# Altium footprint library FETs - MOSFETs.PcbLib: 1 footprints
Each footprint in its own frame and in the unit in brackets; x right, y up, seen from the top. Pads: shape width x height; smd on the part's side, far side on the other; paste and mask are expansions set on the pad; w line width, h text height; cw(c..) or ccw(c..) is an arc to the next point about the centre after c.
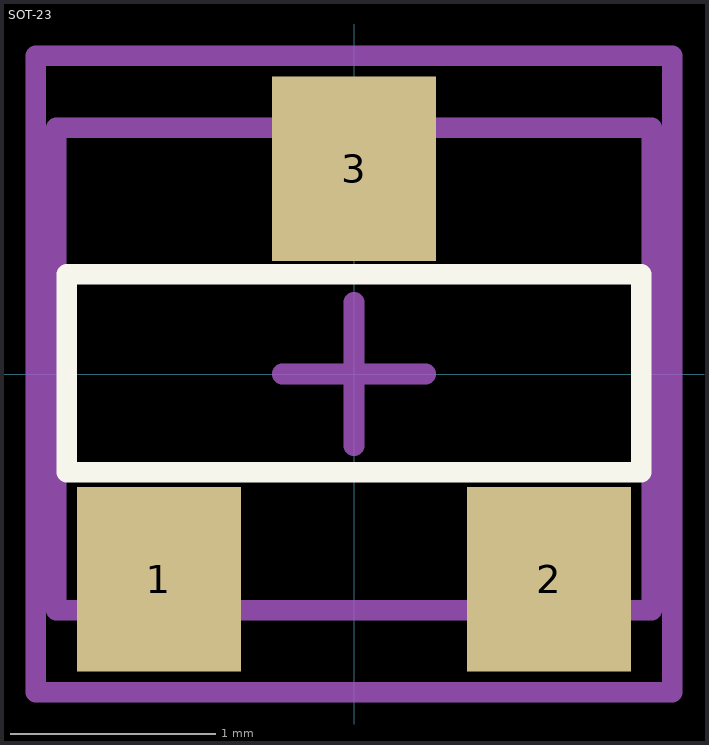
[diagram p0: the footprint, top view; thin cyan lines are the x and y axes]

## SOT-23 [mm] "SOT-23 / 3"
pads (3):
  rect 0.8x0.9 smd mask+0.05: 1(-0.95,-1) 2(0.95,-1) 3(0,1)
Top Overlay:
  lines w0.1: -1.4,-0.478 -1.4,0.486 1.4,0.486 1.4,-0.478 -1.4,-0.478
Top 3D Body:
  lines w0.1: -1.45,-1.15 1.45,-1.15 1.45,1.2 -1.45,1.2 -1.45,-1.15
Top Component Center:
  lines w0.1: -0.35,0 0.35,0 ; 0,-0.35 0,0.35 ; -1.55,-1.55 -1.55,1.55 1.5,1.55 1.55,1.55 1.55,-1.55 -1.55,-1.55
Top Designator:
  lines w0.1: -1.55,-1.55 -1.55,1.55 1.55,1.55 1.55,-1.55 -1.55,-1.55
  text ".Designator" at -0.6,-0.183 h0.5
3D body "BSS123.STEP": height 1.11, standoff 0, extent -1.46,-1.185 1.46,1.185